# Altium schematic symbol library Parts.SchLib: 3 symbols
Pins are listed as number, name and electrical type; pins without a type are passive.

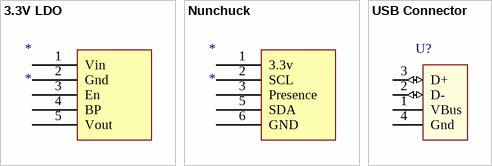
[diagram p0: symbols 3.3V LDO to USB Connector]

## 3.3V LDO
designator *
footprint TSOT23-5L
pins: 1 Vin, 2 Gnd, 3 En, 4 BP, 5 Vout

## Nunchuck
designator *
footprint NUNCHUCK
pins: 1 3.3v, 2 SCL, 3 Presence, 5 SDA, 6 GND

## USB Connector
designator U?  (value not drawn)
Date Created: 08/09/2014
footprint PCB_USB
footprint USB_A_MALE
pins: 1 VBus (power), 2 D- (io), 3 D+ (io), 4 Gnd (power)